# Altium integrated library A2F-SOM.IntLib: 1 symbol
Pins are listed as number, name and electrical type; pins without a type are passive.

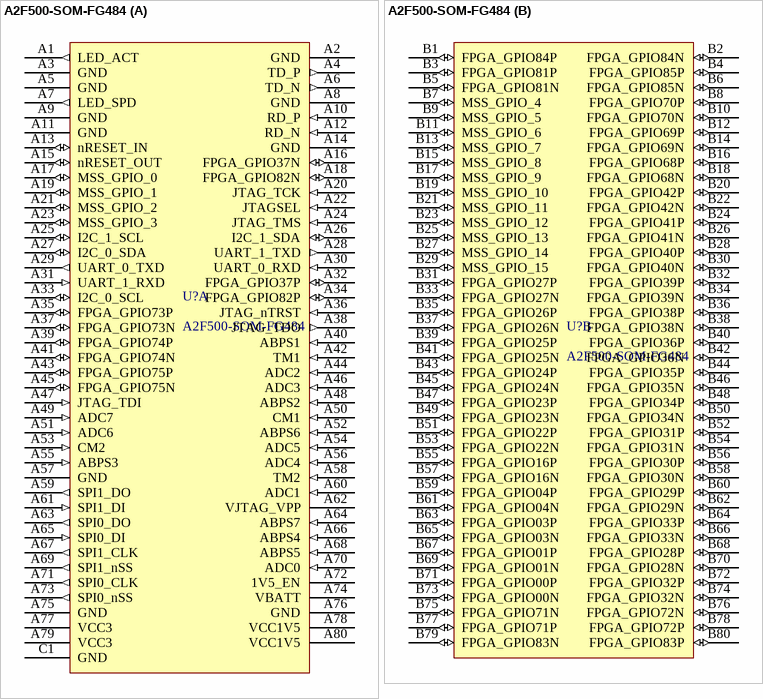
[diagram p0: symbol A2F500-SOM-FG484]

## A2F500-SOM-FG484
designator U?
Microsemi SmartFusion A2F500 FG484 System-on-Module
footprint SOM (System-on-Module (A2F and K70 based))
part A pins: A1 LED_ACT (out), A2 GND (power), A3 GND (power), A4 TD_P (out), A5 GND (power), A6 TD_N (out), A7 LED_SPD (out), A8 GND (power), A9 GND (power), A10 RD_P (in), A11 GND (power), A12 RD_N (in), A13 nRESET_IN (io), A14 GND (power), A15 nRESET_OUT (io), A16 FPGA_GPIO37N (io), A17 MSS_GPIO_0 (io), A18 FPGA_GPIO82N (io), A19 MSS_GPIO_1 (io), A20 JTAG_TCK (in), A21 MSS_GPIO_2 (io), A22 JTAGSEL (in), A23 MSS_GPIO_3 (io), A24 JTAG_TMS (in), A25 I2C_1_SCL (io), A26 I2C_1_SDA (io), A27 I2C_0_SDA (io), A28 UART_1_TXD (out), A29 UART_0_TXD (out), A30 UART_0_RXD (in), A31 UART_1_RXD (in), A32 FPGA_GPIO37P (io), A33 I2C_0_SCL (io), A34 FPGA_GPIO82P (io), A35 FPGA_GPIO73P (io), A36 JTAG_nTRST (in), A37 FPGA_GPIO73N (io), A38 JTAG_TDO (out), A39 FPGA_GPIO74P (io), A40 ABPS1 (in), A41 FPGA_GPIO74N (io), A42 TM1 (in), A43 FPGA_GPIO75P (io), A44 ADC2 (in), A45 FPGA_GPIO75N (io), A46 ADC3 (in), A47 JTAG_TDI (in), A48 ABPS2 (in), A49 ADC7 (in), A50 CM1 (in), A51 ADC6 (in), A52 ABPS6 (in), A53 CM2 (in), A54 ADC5 (in), A55 ABPS3 (in), A56 ADC4 (in), A57 GND (power), A58 TM2 (in), A59 SPI1_DO (out), A60 ADC1 (in), A61 SPI1_DI (in), A62 VJTAG_VPP (power), A63 SPI0_DO (out), A64 ABPS7 (in), A65 SPI0_DI (in), A66 ABPS4 (in), A67 SPI1_CLK (out), A68 ABPS5 (in), A69 SPI1_nSS (out), A70 ADC0 (in), A71 SPI0_CLK (out), A72 1V5_EN (power), A73 SPI0_nSS (out), A74 VBATT (power), A75 GND (power), A76 GND (power), A77 VCC3 (power), A78 VCC1V5 (power), A79 VCC3 (power), A80 VCC1V5 (power), C1 GND (power)
part B pins: B1 FPGA_GPIO84P (io), B2 FPGA_GPIO84N (io), B3 FPGA_GPIO81P (io), B4 FPGA_GPIO85P (io), B5 FPGA_GPIO81N (io), B6 FPGA_GPIO85N (io), B7 MSS_GPIO_4 (io), B8 FPGA_GPIO70P (io), B9 MSS_GPIO_5 (io), B10 FPGA_GPIO70N (io), B11 MSS_GPIO_6 (io), B12 FPGA_GPIO69P (io), B13 MSS_GPIO_7 (io), B14 FPGA_GPIO69N (io), B15 MSS_GPIO_8 (io), B16 FPGA_GPIO68P (io), B17 MSS_GPIO_9 (io), B18 FPGA_GPIO68N (io), B19 MSS_GPIO_10 (io), B20 FPGA_GPIO42P (io), B21 MSS_GPIO_11 (io), B22 FPGA_GPIO42N (io), B23 MSS_GPIO_12 (io), B24 FPGA_GPIO41P (io), B25 MSS_GPIO_13 (io), B26 FPGA_GPIO41N (io), B27 MSS_GPIO_14 (io), B28 FPGA_GPIO40P (io), B29 MSS_GPIO_15 (io), B30 FPGA_GPIO40N (io), B31 FPGA_GPIO27P (io), B32 FPGA_GPIO39P (io), B33 FPGA_GPIO27N (io), B34 FPGA_GPIO39N (io), B35 FPGA_GPIO26P (io), B36 FPGA_GPIO38P (io), B37 FPGA_GPIO26N (io), B38 FPGA_GPIO38N (io), B39 FPGA_GPIO25P (io), B40 FPGA_GPIO36P (io), B41 FPGA_GPIO25N (io), B42 FPGA_GPIO36N (io), B43 FPGA_GPIO24P (io), B44 FPGA_GPIO35P (io), B45 FPGA_GPIO24N (io), B46 FPGA_GPIO35N (io), B47 FPGA_GPIO23P (io), B48 FPGA_GPIO34P (io), B49 FPGA_GPIO23N (io), B50 FPGA_GPIO34N (io), B51 FPGA_GPIO22P (io), B52 FPGA_GPIO31P (io), B53 FPGA_GPIO22N (io), B54 FPGA_GPIO31N (io), B55 FPGA_GPIO16P (io), B56 FPGA_GPIO30P (io), B57 FPGA_GPIO16N (io), B58 FPGA_GPIO30N (io), B59 FPGA_GPIO04P (io), B60 FPGA_GPIO29P (io), B61 FPGA_GPIO04N (io), B62 FPGA_GPIO29N (io), B63 FPGA_GPIO03P (io), B64 FPGA_GPIO33P (io), B65 FPGA_GPIO03N (io), B66 FPGA_GPIO33N (io), B67 FPGA_GPIO01P (io), B68 FPGA_GPIO28P (io), B69 FPGA_GPIO01N (io), B70 FPGA_GPIO28N (io), B71 FPGA_GPIO00P (io), B72 FPGA_GPIO32P (io), B73 FPGA_GPIO00N (io), B74 FPGA_GPIO32N (io), B75 FPGA_GPIO71N (io), B76 FPGA_GPIO72N (io), B77 FPGA_GPIO71P (io), B78 FPGA_GPIO72P (io), B79 FPGA_GPIO83N (io), B80 FPGA_GPIO83P (io)